# Altium schematic symbol library 霍尔电流模块.SchLib: 1 symbol
Pins are listed as number, name and electrical type; pins without a type are passive.

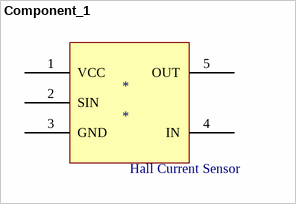
[diagram p0: symbol Component_1]

## Component_1
designator *
pins: 1 VCC, 2 SIN, 3 GND, 4 IN, 5 OUT
text: Hall Current Sensor